# Altium footprint library xal_2_1130x1000x600.PcbLib: 1 footprints
Each footprint in its own frame and in the unit in brackets; x right, y up, seen from the top. Pads: shape width x height; smd on the part's side, far side on the other; paste and mask are expansions set on the pad; w line width, h text height; cw(c..) or ccw(c..) is an arc to the next point about the centre after c.
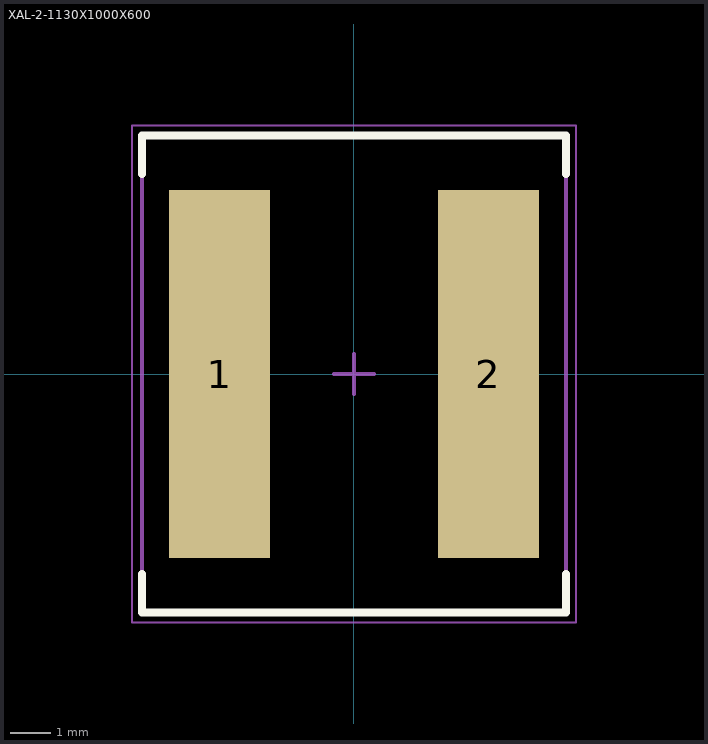
[diagram p0: the footprint, top view; thin cyan lines are the x and y axes]

## XAL-2-1130X1000X600 [mm] "Precision Wire Wound Inductor, 2-Leads, Body 10,00x11,30mm, IPC Medium Density"
height 6
pads (2):
  rect 2.5x9.1 smd: 1(-3.325,0) 2(3.325,0)
Top Overlay:
  lines w0.2: -5.25,-4.95 -5.25,-5.9 5.25,-5.9 5.25,-4.95 ; -5.25,4.95 -5.25,5.9 5.25,5.9 5.25,4.95
Top Comment:
  text ".Comment" at 1,6.5 h1.2
Top Designator:
  text ".Designator" at -0.4,6.5 h1.2
Top Component Outline:
  lines w0.1: -5.25,-5.9 5.25,-5.9 5.25,5.9 -5.25,5.9 -5.25,-5.9
Top Courtyard (Mech15):
  lines w0.05: -5.5,-6.15 5.5,-6.15 5.5,6.15 -5.5,6.15 -5.5,-6.15
  lines w0.1: -0.5,0 0.5,0 ; 0,-0.5 0,0.5
3D body "XAL1060.STEP": height 5.9, standoff -0.1, extent -5.25,-5.9 5.25,5.9